# Altium footprint library TI Voltage-Level translator.PcbLib: 1 footprints
Each footprint in its own frame and in the unit in brackets; x right, y up, seen from the top. Pads: shape width x height; smd on the part's side, far side on the other; paste and mask are expansions set on the pad; w line width, h text height; cw(c..) or ccw(c..) is an arc to the next point about the centre after c.
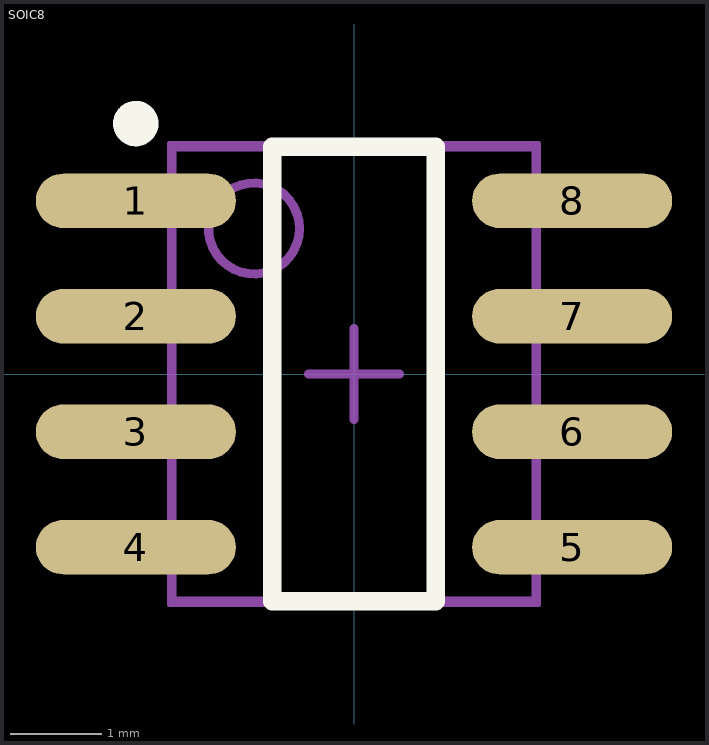
[diagram p0: the footprint, top view; thin cyan lines are the x and y axes]

## SOIC8 [mm] "SOIC, 8-Leads, Body 4,90x3,90mm, Pitch 1,27mm, IPC Medium Density"
height 1.75
pads (8):
  oval 2.2x0.6 smd: 1(-2.4,1.905) 2(-2.4,0.635) 3(-2.4,-0.635) 4(-2.4,-1.905) 5(2.4,-1.905) 6(2.4,-0.635) 7(2.4,0.635) 8(2.4,1.905)
Top Overlay:
  circle w0.25: c-2.4,2.755 r0.125
  lines w0.2: -0.9,-2.5 -0.9,2.5 0.9,2.5 0.9,-2.5 -0.9,-2.5
Mechanical 13:
  circle w0.1: c-1.1,1.6 r0.5
  lines w0.1: -2,-2.5 -2,2.5 2,2.5 2,-2.5 -2,-2.5
Mechanical 15:
  lines w0.05: -2.032,-2.159 -3.302,-2.159 -3.302,-1.651 -2.032,-1.651 ; -2.032,-0.889 -3.302,-0.889 -3.302,-0.381 -2.032,-0.381 ; -2.032,0.381 -3.302,0.381 -3.302,0.889 -2.032,0.889 ; -2.032,1.651 -3.302,1.651 -3.302,2.159 -2.032,2.159 ; 2.032,-2.159 3.302,-2.159 3.302,-1.651 2.032,-1.651 ; 2.032,-0.889 3.302,-0.889 3.302,-0.381 2.032,-0.381 ; 2.032,0.381 3.302,0.381 3.302,0.889 2.032,0.889 ; 2.032,1.651 3.302,1.651 3.302,2.159 2.032,2.159 ; -2.032,-2.54 -2.032,2.54 2.032,2.54 2.032,-2.54 -2.032,-2.54
  lines w0.1: -0.5,0 0.5,0 ; 0,-0.5 0,0.5
  text "1" at -2.667,2.413 h0.5
3D body "SO8.STEP": height 1.61, standoff 0.01, extent -2.995,-2.45 2.995,2.45